# Altium schematic symbol library LMR54410FDBVR.SchLib: 1 symbol
Pins are listed as number, name and electrical type; pins without a type are passive.

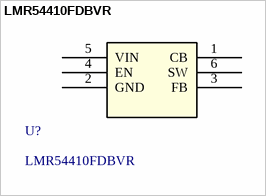
[diagram p0: symbol LMR54410FDBVR]

## LMR54410FDBVR
designator U?
4V to 36V, 1A, 80-ÂµA Iq synchronous SIMPLE SWITCHERÂ® power converter 6-SOT-23 -40 to 125; Manufacturer_Name: Texas Instruments; Copyright: Copyright (C) 2025 Ultra Librarian. All rights reserved.; Manufacturer_Part_Number: LMR54410FDBVR; RefDes: RefDes; Type: Type
footprint SOT-23-6-DBV_TEX
pins: 1 CB (power), 2 GND (power), 3 FB, 4 EN, 5 VIN (power), 6 SW (power)